# Altium schematic symbol library Led Red 0603.Schlib: 1 symbol
Pins are listed as number, name and electrical type; pins without a type are passive.

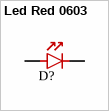
[diagram p0: symbol Led Red 0603]

## Led Red 0603
designator D?, comment Led Red  (value not drawn)
LIGHT EMITTING DIODES (LED) RED 520~625NM 90~100MCD@20MA TOP VIEW 0603 ROHS; LCSC Part #: C2286
footprint CH0603LR (Chip Diode, 2-Leads, Body 1.60x0.80mm, IPC Medium Density)
pins: 1, 2